# EAGLE library part TI-ADS4146 (library EagleLibrary)
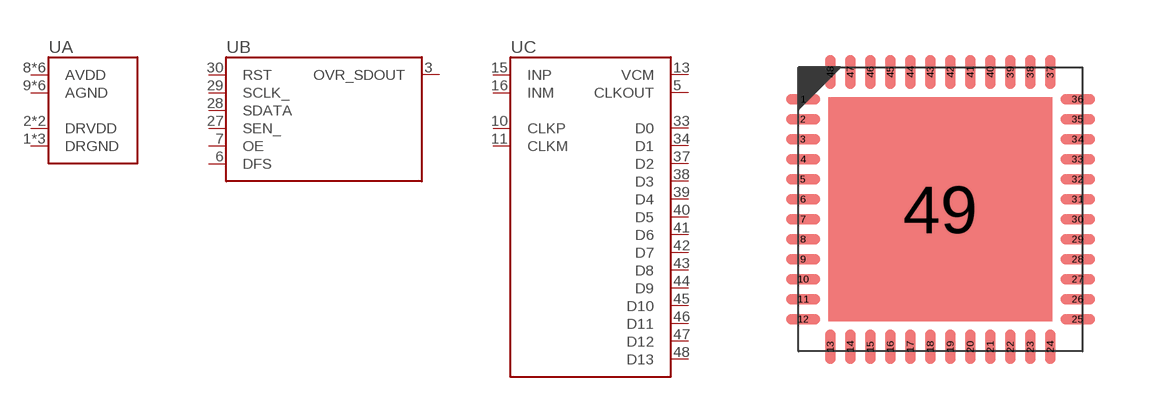
[diagram p26: symbol with the pads of TI-ADS4146; footprint TI-ADS4146]

Designator prefix U; gates A=TI-ADS4146-A B=TI-ADS4146-B C=TI-ADS4146-C

## TI-ADS4146 (MFG: Texas Instruments)  [TI-ADS4146]
1  A:DRGND
2  A:DRVDD
3  B:OVR_SDOUT
5  C:CLKOUT
6  B:DFS
7  B:OE
8  A:AVDD
9  A:AGND
10  C:CLKP
11  C:CLKM
12  A:AGND
13  C:VCM
14  A:AGND
15  C:INP
16  C:INM
17  A:AGND
18  A:AVDD
19  A:AGND
20  A:AVDD
22  A:AVDD
24  A:AVDD
25  A:AGND
26  A:AVDD
27  B:SEN_
28  B:SDATA
29  B:SCLK_
30  B:RST
33  C:D0
34  C:D1
35  A:DRVDD
36  A:DRGND
37  C:D2
38  C:D3
39  C:D4
40  C:D5
41  C:D6
42  C:D7
43  C:D8
44  C:D9
45  C:D10
46  C:D11
47  C:D12
48  C:D13
49  A:DRGND

## Footprint TI-ADS4146 (pad centres in mm)
48-QFN, 0.50 mm pitch, 7.00 X 7.00 X 1.00 mm body, 5.60 X 5.60 mm thermal pad 48-pin QFN package with 0.50 mm pitch with body size 7.00 X 7.00 X 1.00 mm and thermal pad size 5.60 X 5.60 mm
smd 0.86 x 0.264: 1 -3.435,2.75; 2 -3.435,2.25; 3 -3.435,1.75; 4 -3.435,1.25; 5 -3.435,0.75; 6 -3.435,0.25; 7 -3.435,-0.25; 8 -3.435,-0.75; 9 -3.435,-1.25; 10 -3.435,-1.75; 11 -3.435,-2.25; 12 -3.435,-2.75; 25 3.435,-2.75; 26 3.435,-2.25; 27 3.435,-1.75; 28 3.435,-1.25; 29 3.435,-0.75; 30 3.435,-0.25; 31 3.435,0.25; 32 3.435,0.75; 33 3.435,1.25; 34 3.435,1.75; 35 3.435,2.25; 36 3.435,2.75
smd 0.264 x 0.86: 13 -2.75,-3.435; 14 -2.25,-3.435; 15 -1.75,-3.435; 16 -1.25,-3.435; 17 -0.75,-3.435; 18 -0.25,-3.435; 19 0.25,-3.435; 20 0.75,-3.435; 21 1.25,-3.435; 22 1.75,-3.435; 23 2.25,-3.435; 24 2.75,-3.435; 37 2.75,3.435; 38 2.25,3.435; 39 1.75,3.435; 40 1.25,3.435; 41 0.75,3.435; 42 0.25,3.435; 43 -0.25,3.435; 44 -0.75,3.435; 45 -1.25,3.435; 46 -1.75,3.435; 47 -2.25,3.435; 48 -2.75,3.435
smd 5.6 x 5.6: 49 0,0